# Altium footprint library Motor.PcbLib: 19 footprints (part 1 of 2)
Each footprint in its own frame and in the unit in brackets; x right, y up, seen from the top. Pads: shape width x height; smd on the part's side, far side on the other; paste and mask are expansions set on the pad; w line width, h text height; cw(c..) or ccw(c..) is an arc to the next point about the centre after c.
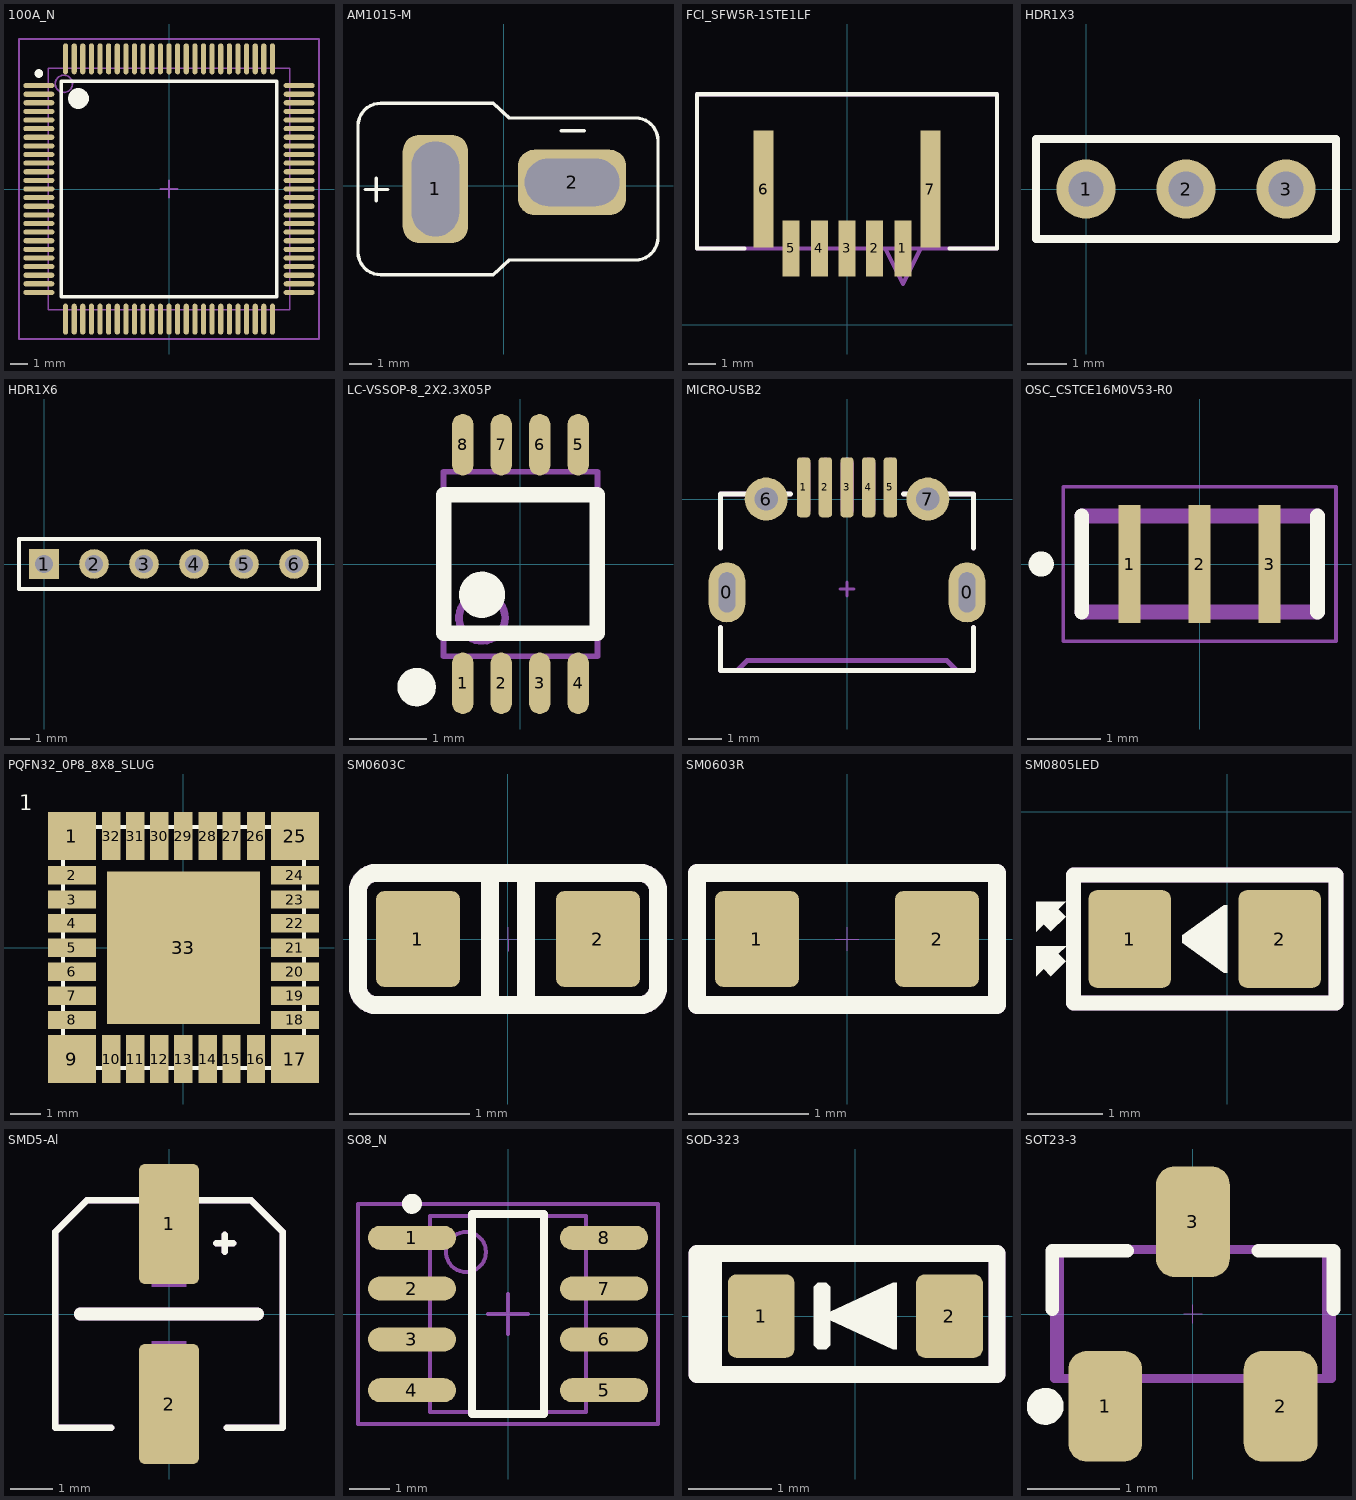
[diagram p0: the footprints below, top view; thin cyan lines are the x and y axes]

## 100A_N [mm] "Thin QFP, 100-Leads, Body 14x14mm, Pitch 0.5mm, IPC Medium Densit"
height 1.2
pads (100):
  oval 1.8x0.3 smd: 1(-7.55,6) 2(-7.55,5.5) 3(-7.55,5) 4(-7.55,4.5) 5(-7.55,4) 6(-7.55,3.5) 7(-7.55,3) 8(-7.55,2.5) 9(-7.55,2) 10(-7.55,1.5) 11(-7.55,1) 12(-7.55,0.5) 13(-7.55,0) 14(-7.55,-0.5) 15(-7.55,-1) 16(-7.55,-1.5) 17(-7.55,-2) 18(-7.55,-2.5) 19(-7.55,-3) 20(-7.55,-3.5) 21(-7.55,-4) 22(-7.55,-4.5) 23(-7.55,-5) 24(-7.55,-5.5) 25(-7.55,-6) 51(7.55,-6) 52(7.55,-5.5) 53(7.55,-5) 54(7.55,-4.5) 55(7.55,-4) 56(7.55,-3.5) 57(7.55,-3) 58(7.55,-2.5) 59(7.55,-2) 60(7.55,-1.5) 61(7.55,-1) 62(7.55,-0.5) 63(7.55,0) 64(7.55,0.5) 65(7.55,1) 66(7.55,1.5) 67(7.55,2) 68(7.55,2.5) 69(7.55,3) 70(7.55,3.5) 71(7.55,4) 72(7.55,4.5) 73(7.55,5) 74(7.55,5.5) 75(7.55,6)
  oval 0.3x1.8 smd: 26(-6,-7.55) 27(-5.5,-7.55) 28(-5,-7.55) 29(-4.5,-7.55) 30(-4,-7.55) 31(-3.5,-7.55) 32(-3,-7.55) 33(-2.5,-7.55) 34(-2,-7.55) 35(-1.5,-7.55) 36(-1,-7.55) 37(-0.5,-7.55) 38(0,-7.55) 39(0.5,-7.55) 40(1,-7.55) 41(1.5,-7.55) 42(2,-7.55) 43(2.5,-7.55) 44(3,-7.55) 45(3.5,-7.55) 46(4,-7.55) 47(4.5,-7.55) 48(5,-7.55) 49(5.5,-7.55) 50(6,-7.55) 76(6,7.55) 77(5.5,7.55) 78(5,7.55) 79(4.5,7.55) 80(4,7.55) 81(3.5,7.55) 82(3,7.55) 83(2.5,7.55) 84(2,7.55) 85(1.5,7.55) 86(1,7.55) 87(0.5,7.55) 88(0,7.55) 89(-0.5,7.55) 90(-1,7.55) 91(-1.5,7.55) 92(-2,7.55) 93(-2.5,7.55) 94(-3,7.55) 95(-3.5,7.55) 96(-4,7.55) 97(-4.5,7.55) 98(-5,7.55) 99(-5.5,7.55) 100(-6,7.55)
Top Overlay:
  circle w0.25: c-7.55,6.7 r0.125
  circle w0.6: c-5.25,5.25 r0.3
  lines w0.2: -6.25,-6.25 -6.25,6.25 6.25,6.25 6.25,-6.25 -6.25,-6.25
Mechanical 6:
  lines w0.1: -0.5,0 0.5,0 ; 0,-0.5 0,0.5 ; -8.7,-8.7 8.7,-8.7 8.7,8.7 -8.7,8.7 -8.7,-8.7 ; -7,-7 7,-7 7,7 -7,7 -7,-7
Mechanical 13:
  circle w0.1: c-6.1,6.1 r0.5
3D body: height 1.2, standoff 0, extent -7,-7 7,7

## AM1015-M [mm]
pads (2):
  rrect50% 2.9x4.8 hole 2.1 slot 4.2 at 90 deg: 1(-3.029,-0.147)
  rrect50% 4.8x2.9 hole 2.1 slot 4.2 at 0 deg: 2(3.029,0.147)
Top Overlay:
  lines w0.15: -6.153,-0.172 -5.137,-0.172 ; -5.645,-0.68 -5.645,0.336 ; 2.551,2.44 3.567,2.44 ; -6.462,-2.949 ccw(c-5.462,-2.949) -5.462,-3.949 -0.462,-3.949 0.238,-3.299 5.838,-3.299 ccw(c5.838,-2.299) 6.838,-2.299 6.838,2.001 ccw(c5.838,2.001) 5.838,3.001 0.238,3.001 -0.462,3.651 -5.462,3.651 ccw(c-5.462,2.651) -6.462,2.651 -6.462,-2.949
Mechanical 4:
  lines w0.013: -2.362,-1.759 -2.161,-1.759 -2.161,1.241 ; -2.362,1.241 -2.062,1.241 ; -2.262,-1.759 -2.262,1.241 ; -2.067,-1.699 -2.067,1.241
Mechanical 6:
  lines w0.013: -3.662,-0.949 -3.962,-0.949 -3.962,0.651 -3.662,0.651 ; 2.238,-0.499 2.238,-0.799 3.838,-0.799 3.838,-0.499 ; -3.662,-1.959 -3.662,1.661 -2.362,1.661 -2.362,-1.959 -3.662,-1.959 ; 1.228,-0.499 4.848,-0.499 4.848,0.801 1.228,0.801 1.228,-0.499
3D body: height 6, standoff 0, extent -6.458,-3.957 6.826,3.663
3D body: height 14.1, standoff -5, extent -3.664,-1.95 -2.364,1.67
3D body: height 14.1, standoff -5, extent 1.225,-0.509 4.845,0.791

## FCI_SFW5R-1STE1LF [mil]
height 57.09
pads (7):
  rect 24x79 smd: 1(79,108) 2(39,108) 3(0,108) 4(-39,108) 5(-79,108)
  rect 28x165 smd: 6(-118,192) 7(118,192)
Top Overlay:
  lines w6: -145,108 -212,108 -212,326 212,326 212,108 145,108
Mechanical 16:
  lines w6: 54,108 79,58 104,108 ; -212,108 212,108 212,326 -212,326 -212,108

## HDR1X3 [mm] "Connector; Header; 3 Position"
height 1.45
pads (3):
  round 1.5 hole 0.9: 1(0,0) 2(2.54,0) 3(5.08,0)
Top Overlay:
  lines w0.2: -1.27,-1.27 6.35,-1.27 6.35,1.27 -1.27,1.27 -1.27,-1.27

## HDR1X6 [mm] "Connector; Header; 5 Position"
pads (6):
  rect 1.5x1.5 hole 0.9: 1(0,0)
  round 1.5 hole 0.9: 2(2.54,0) 3(5.08,0) 4(7.62,0) 5(10.16,0) 6(12.7,0)
Top Overlay:
  lines w0.2: -1.27,-1.27 -1.27,1.27 13.97,1.27 13.97,-1.27 -1.27,-1.27

## LC-VSSOP-8_2X2.3X05P [mm]
pads (8):
  oval 0.28x0.8 smd mask+0.051: 1(-0.75,-1.55) 2(-0.25,-1.55) 3(0.25,-1.55) 4(0.75,-1.55) 5(0.75,1.55) 6(0.25,1.55) 7(-0.25,1.55) 8(-0.75,1.55)
Top Overlay:
  circle w0.25: c-1.35,-1.6 r0.125
  circle w0.35: c-0.5,-0.4 r0.125
  lines w0.2: -1,-0.9 1,-0.9 1,0.9 -1,0.9 -1,-0.9
Mechanical 13:
  circle w0.1: c-0.5,-0.7 r0.3
  lines w0.076: -1,-1.2 1,-1.2 1,1.2 -1,1.2 -1,-1.2
3D body: height 0.91, standoff 0.9, extent -0.85,-0.754 -0.45,-0.354
3D body: height 0.9, standoff 0, extent -1.007,-0.901 0.995,0.889
3D body: height 0.15, standoff 0, extent 0.651,1.254 0.848,1.611
3D body: height 0.6, standoff 0, extent 0.651,1.254 0.848,1.432
3D body: height 0.6, standoff 0.4, extent 0.651,0.9 0.848,1.254
3D body: height 0.15, standoff 0, extent 0.151,1.254 0.348,1.611
3D body: height 0.6, standoff 0, extent 0.151,1.254 0.348,1.432
3D body: height 0.6, standoff 0.4, extent 0.151,0.9 0.348,1.254
3D body: height 0.15, standoff 0, extent -0.349,1.254 -0.152,1.611
3D body: height 0.6, standoff 0, extent -0.349,1.254 -0.152,1.432
3D body: height 0.6, standoff 0.4, extent -0.349,0.9 -0.152,1.254
3D body: height 0.15, standoff 0, extent -0.849,1.254 -0.652,1.611
3D body: height 0.6, standoff 0, extent -0.849,1.254 -0.652,1.432
3D body: height 0.6, standoff 0.4, extent -0.849,0.9 -0.652,1.254
3D body: height 0.15, standoff 0, extent 0.652,-1.611 0.849,-1.254
3D body: height 0.6, standoff 0, extent 0.652,-1.432 0.849,-1.254
3D body: height 0.6, standoff 0.4, extent 0.652,-1.254 0.849,-0.9
3D body: height 0.15, standoff 0, extent 0.152,-1.611 0.349,-1.254
3D body: height 0.6, standoff 0, extent 0.152,-1.432 0.349,-1.254
3D body: height 0.6, standoff 0.4, extent 0.152,-1.254 0.349,-0.9
3D body: height 0.15, standoff 0, extent -0.348,-1.611 -0.151,-1.254
3D body: height 0.6, standoff 0, extent -0.348,-1.432 -0.151,-1.254
3D body: height 0.6, standoff 0.4, extent -0.348,-1.254 -0.151,-0.9
3D body: height 0.6, standoff 0.4, extent -0.848,-1.254 -0.651,-0.9
3D body: height 0.6, standoff 0, extent -0.848,-1.432 -0.651,-1.254
3D body: height 0.15, standoff 0, extent -0.848,-1.611 -0.651,-1.254

## MICRO-USB2 [mm]
height 2.45
pads (9):
  oval 1.1x1.8 hole 0.5 slot 1.2 at 90 deg mask+0.05: 0(-3.6,-2.8) 0(3.6,-2.8)
  rrect50% 0.4x1.8 smd mask+0.05: 1(-1.3,0.352) 2(-0.65,0.352) 3(0,0.352) 4(0.65,0.352) 5(1.3,0.352)
  round 1.29 hole 0.7 unplated mask+0.05: 6(-2.425,0) 7(2.425,0)
Top Overlay:
  lines w0.15: -3.8,-3.85 -3.8,-5.15 3.8,-5.15 3.8,-3.85 ; -3.8,-1.475 -3.8,0.15 -1.7,0.15 ; 1.7,0.15 3.8,0.15 3.8,-1.475
Mechanical 7:
  lines w0.1: -0.2,-2.7 0.2,-2.7 ; 0,-2.9 0,-2.5
  lines w0.15: -3.8,-3.85 -3.8,-5.15 -3.3,-5.15 ; -3.8,-1.475 -3.8,0.15 -1.7,0.15 ; -3.475,-5.15 -3.3,-5.15 ; 1.7,0.15 3.8,0.15 3.8,-1.475 ; 3.475,-5.15 3.3,-5.15 ; 3.8,-3.85 3.8,-5.15 3.3,-5.15 ; -3.3,-5.15 -3,-4.85 3,-4.85 3.3,-5.15
  lines w0.4: -1.295,-0.33 -1.295,0.341 -1.295,1.041 ; -0.645,-0.33 -0.645,0.341 -0.645,1.041 ; 0.005,-0.33 0.005,0.341 0.005,1.041 ; 0.655,-0.33 0.655,0.341 0.655,1.041 ; 1.305,-0.33 1.305,0.341 1.305,1.041
  text ".Comment" at -3.275,-4.575 h1
  text ".Designator" at -3.625,-1.575 h2
3D body: height 2.69, standoff -0.25, extent -3.99,-5.23 3.99,0.2

## OSC_CSTCE16M0V53-R0 [mm]
height 1.45
pads (3):
  rect 0.3x1.6 smd paste-25.4 mask-25.4: 1(-0.95,0) 2(0,0) 3(0.95,0)
Top Overlay:
  circle w0.2: c-2.15,0 r0.071
  lines w0.2: -1.6,-0.65 -1.6,0.65 ; 1.6,-0.65 1.6,0.65
Top Paste:
  region: 0.8,-0.8 1.1,-0.8 1.1,0.8 0.8,0.8
  region: -0.15,-0.8 0.15,-0.8 0.15,0.8 -0.15,0.8
  region: -1.1,-0.8 -0.8,-0.8 -0.8,0.8 -1.1,0.8
Top Solder:
  region: 0.7,-0.9 1.2,-0.9 1.2,0.9 0.7,0.9
  region: -0.25,-0.9 0.25,-0.9 0.25,0.9 -0.25,0.9
  region: -1.2,-0.9 -0.7,-0.9 -0.7,0.9 -1.2,0.9
Mechanical 6:
  lines w0.05: -1.85,-1.05 1.85,-1.05 1.85,1.05 -1.85,1.05 -1.85,-1.05
  lines w0.2: -1.6,-0.65 1.6,-0.65 ; -1.6,0.65 1.6,0.65

## PQFN32_0P8_8X8_SLUG [mil]
height 57.09
pads (33):
  rect 63x63 smd: 1(-145.67,146) 9(-145.67,-145.67) 17(146,-145.67) 25(146,146)
  rect 63x24 smd: 2(-145.67,95) 3(-145.67,63) 4(-145.67,32) 5(-145.67,0) 6(-145.67,-31.5) 7(-145.67,-62.99) 8(-145.67,-94.49) 18(146,-94.49) 19(146,-62.99) 20(146,-31.5) 21(146,0) 22(146,32) 23(146,63) 24(146,95)
  rect 24x63 smd: 10(-94.49,-145.67) 11(-62.99,-145.67) 12(-31.5,-145.67) 13(0,-145.67) 14(32,-145.67) 15(63,-145.67) 16(95,-145.67) 26(95,146) 27(63,146) 28(32,146) 29(0,146) 30(-31.5,146) 31(-62.99,146) 32(-94.49,146)
  rect 200x200 smd: 33(0,0)
Top Overlay:
  lines w5: -157.48,-157.48 158,-157.48 158,158 -157.48,158 -157.48,-157.48
  text "1" at -215,180 h20
3D body: height 43.31, standoff 1.97, extent -157.6,-157.48 157.99,157.95
3D body: height 43.7, standoff 43.31, extent -141.78,103.87 -102.43,143.23
3D body: height 7.87, standoff 0, extent -157.91,84.55 -142.16,105.22
3D body: height 7.87, standoff 0, extent -157.91,116.55 -142.16,137.22
3D body: height 7.87, standoff 0, extent -157.91,52.55 -142.16,73.22
3D body: height 7.87, standoff 0, extent -157.91,52.55 -142.16,73.22
3D body: height 7.87, standoff 0, extent -157.91,21.55 -142.16,42.22
3D body: height 7.87, standoff 0, extent -157.91,-10.45 -142.16,10.22
3D body: height 7.87, standoff 0, extent -157.91,-41.95 -142.16,-21.28
3D body: height 7.87, standoff 0, extent -157.91,-73.44 -142.16,-52.77
3D body: height 7.87, standoff 0, extent -157.91,-104.94 -142.16,-84.27
3D body: height 7.87, standoff 0, extent -157.91,-136.71 -142.16,-116.04
3D body: height 7.87, standoff 0, extent 116.55,-157.91 137.22,-142.16
3D body: height 7.87, standoff 0, extent 84.78,-157.91 105.45,-142.16
3D body: height 7.87, standoff 0, extent 53.28,-157.91 73.95,-142.16
3D body: height 7.87, standoff 0, extent 21.79,-157.91 42.46,-142.16
3D body: height 7.87, standoff 0, extent -9.71,-157.91 10.96,-142.16
3D body: height 7.87, standoff 0, extent -41.71,-157.91 -21.04,-142.16
3D body: height 7.87, standoff 0, extent -72.71,-157.91 -52.04,-142.16
3D body: height 7.87, standoff 0, extent -72.71,-157.91 -52.04,-142.16
3D body: height 7.87, standoff 0, extent -136.71,-157.91 -116.04,-142.16
3D body: height 7.87, standoff 0, extent -104.71,-157.91 -84.04,-142.16
3D body: height 7.87, standoff 0, extent 142.49,116.55 158.24,137.22
3D body: height 7.87, standoff 0, extent 142.49,84.78 158.24,105.45
3D body: height 7.87, standoff 0, extent 142.49,53.28 158.24,73.95
3D body: height 7.87, standoff 0, extent 142.49,21.79 158.24,42.46
3D body: height 7.87, standoff 0, extent 142.49,-9.71 158.24,10.96
3D body: height 7.87, standoff 0, extent 142.49,-41.71 158.24,-21.04
3D body: height 7.87, standoff 0, extent 142.49,-72.71 158.24,-52.04
3D body: height 7.87, standoff 0, extent 142.49,-72.71 158.24,-52.04
3D body: height 7.87, standoff 0, extent 142.49,-136.71 158.24,-116.04
3D body: height 7.87, standoff 0, extent 142.49,-104.71 158.24,-84.04
3D body: height 7.87, standoff 0, extent -136.71,142.49 -116.04,158.24
3D body: height 7.87, standoff 0, extent -104.94,142.49 -84.27,158.24
3D body: height 7.87, standoff 0, extent -73.44,142.49 -52.77,158.24
3D body: height 7.87, standoff 0, extent -41.95,142.49 -21.28,158.24
3D body: height 7.87, standoff 0, extent -10.45,142.49 10.22,158.24
3D body: height 7.87, standoff 0, extent 21.55,142.49 42.22,158.24
3D body: height 7.87, standoff 0, extent 52.55,142.49 73.22,158.24
3D body: height 7.87, standoff 0, extent 52.55,142.49 73.22,158.24
3D body: height 7.87, standoff 0, extent 116.55,142.49 137.22,158.24
3D body: height 7.87, standoff 0, extent 84.55,142.49 105.22,158.24

## SM0603C [mm]
height 0.3
pads (2):
  rrect20% 0.7x0.8 smd: 1(-0.75,0) 2(0.75,0)
Top Overlay:
  lines w0.15: -0.15,-0.55 -0.15,0.55 ; 0.15,-0.55 0.15,0.55 ; -1.25,-0.4 ccw(c-1.1,-0.4) -1.1,-0.55 1.1,-0.55 ccw(c1.1,-0.4) 1.25,-0.4 1.25,0.4 ccw(c1.1,0.4) 1.1,0.55 -1.1,0.55 ccw(c-1.1,0.4) -1.25,0.4 -1.25,-0.4
Mechanical 7:
  lines w0.01: -0.1,0 0.1,0 ; 0,-0.1 0,0.1
  lines w0.15: -1.25,-0.4 ccw(c-1.1,-0.4) -1.1,-0.55 1.1,-0.55 ccw(c1.1,-0.4) 1.25,-0.4 1.25,0.4 ccw(c1.1,0.4) 1.1,0.55 -1.1,0.55 ccw(c-1.1,0.4) -1.25,0.4 -1.25,-0.4
  text ".Designator" at -1.1,-0.2 h0.95
  text ".Comment" at -1,-0.45 h0.2
3D body: height 0.81, standoff 0, extent -0.457,-0.381 0.457,0.381
3D body: height 0.81, standoff 0, extent 0.457,-0.381 0.762,0.381
3D body: height 0.81, standoff 0, extent -0.762,-0.381 -0.457,0.381

## SM0603R [mm]
pads (2):
  rrect20% 0.7x0.8 smd: 1(-0.75,0) 2(0.75,0)
Top Overlay:
  lines w0.152: -1.25,-0.55 -1.25,0.55 1.25,0.55 1.25,-0.55 -1.25,-0.55
Mechanical 7:
  lines w0.01: -0.1,0 0.1,0 ; 0,-0.1 0,0.1
  lines w0.15: -1.25,-0.55 -1.25,0.55 1.25,0.55 1.25,-0.55 -1.25,-0.55
  text ".Designator" at -1.1,-0.2 h0.95
  text ".Comment" at -1,-0.45 h0.2
3D body: height 0.81, standoff 0, extent -0.457,-0.381 0.457,0.381
3D body: height 0.81, standoff 0, extent -0.762,-0.381 -0.457,0.381
3D body: height 0.81, standoff 0, extent 0.457,-0.381 0.762,0.381

## SM0805LED [mm]
pads (2):
  rrect20% 1.1x1.3 smd: 1(-1.3,-1.7) 2(0.7,-1.7)
Top Overlay:
  region: -2.15,-2 -2.25,-1.9 -2.15,-1.8 -2.55,-1.8 -2.55,-2.2 -2.45,-2.1 -2.35,-2.2
  region: -2.15,-1.4 -2.25,-1.3 -2.15,-1.2 -2.55,-1.2 -2.55,-1.6 -2.45,-1.5 -2.35,-1.6
  region: -0.6,-1.65 -0.05,-1.25 0,-1.25 0,-2.15 -0.05,-2.15 -0.6,-1.75
  lines w0.2: -2.05,-2.55 -2.05,-2.3 -2.05,-1.1 -2.05,-0.85 -1.8,-0.85 1.197,-0.85 1.45,-0.85 1.45,-1.1 1.45,-2.3 1.45,-2.55 1.2,-2.55 -1.8,-2.55 -2.05,-2.55
Mechanical 7:
  lines w0.02: -0.4,-1.7 -0.2,-1.7 ; -0.3,-1.8 -0.3,-1.6
  lines w0.2: -2.05,-2.55 -1.8,-2.55 1.2,-2.55 1.45,-2.55 1.45,-2.3 1.45,-1.1 1.45,-0.85 1.197,-0.85 -1.8,-0.85 -2.05,-0.85 -2.05,-1.1 -2.05,-2.3 -2.05,-2.55
  text ".Designator" at -1.85,-1.62 h1
  text ".Comment" at -1.85,-2.3 h0.4
3D body: height 0.14, standoff 0.1, extent -0.376,-1.776 -0.224,-1.624
3D body: height 0.1, standoff 0.03, extent -1.037,-2.081 0.437,-1.319
3D body: height 0.1, standoff 0.03, extent -1.037,-2.081 0.437,-1.319
3D body: height 0.4, standoff 0.13, extent -0.757,-2.081 0.157,-1.319
3D body: height 0.13, standoff 0, extent -1.4,-2.068 -1.375,-1.306
3D body: height 0.13, standoff 0.1, extent -1.4,-2.068 -0.744,-1.306
3D body: height 0.03, standoff 0, extent -1.4,-2.068 -0.744,-1.306
3D body: height 0.03, standoff 0, extent 0.145,-2.068 0.8,-1.306
3D body: height 0.13, standoff 0.1, extent 0.145,-2.068 0.8,-1.306
3D body: height 0.13, standoff 0, extent 0.775,-2.068 0.8,-1.306
3D body: height 0.14, standoff 0.13, extent -0.313,-1.89 0.005,-1.662
3D body: height 0.13, standoff 0.1, extent -0.059,-1.941 0.145,-1.814
3D body: height 0.13, standoff 0.1, extent -0.745,-1.789 0.068,-1.56

## SMD5-Al [mm]
height 5.4
pads (2):
  rrect20% 1.4x2.8 smd: 1(0,2.1) 2(0,-2.1)
Top Overlay:
  lines w0.15: -1.35,-2.65 -2.65,-2.65 -2.65,1.922 -1.922,2.65 1.922,2.65 2.65,1.922 2.65,-2.65 1.35,-2.65 ; 1.1,1.65 1.5,1.65 ; 1.3,1.45 1.3,1.85
  lines w0.3: -2.07,0 2.065,0
Mechanical 7:
  region: -0.4,0.635 0.4,0.635 0.4,2.921 -0.4,2.921
  region: 0.4,-0.635 -0.4,-0.635 -0.4,-2.921 0.4,-2.921
  lines w0.01: -0.1,0 0.1,0 ; 0,-0.1 0,0.1
  lines w0.15: -1.35,-2.65 -2.65,-2.65 -2.65,1.922 -1.922,2.65 1.922,2.65 2.65,1.922 2.65,-2.65 1.35,-2.65 ; 1.1,1.65 1.5,1.65 ; 1.3,1.45 1.3,1.85
  lines w0.3: -2.07,0 2.065,0
  text ".Comment" at 1.65,-1.85 h0.3
  text ".Designator" at -1.1,-1.95 h0.95
3D body: height 0.8, standoff 0.3, extent -2.667,-2.65 2.65,2.65
3D body: height 5.41, standoff 5.38, extent -1.52,-1.995 1.52,-1.295
3D body: height 5.4, standoff 0.8, extent -2.508,-2.498 2.489,2.5
3D body: height 0.3, standoff 0.05, extent -2.65,-2.65 2.65,2.65
3D body: height 0.28, standoff 0, extent -0.4,0.703 0.4,2.853
3D body: height 0.28, standoff 0, extent -0.4,-2.853 0.4,-0.703

## SO8_N [mm] "SOIC, 8-Leads, Body 4.9x3.9mm, Pitch 1.27mm, IPC Medium Density"
height 1.76
pads (8):
  oval 2.2x0.6 smd: 1(-2.4,1.905) 2(-2.4,0.635) 3(-2.4,-0.635) 4(-2.4,-1.905) 5(2.4,-1.905) 6(2.4,-0.635) 7(2.4,0.635) 8(2.4,1.905)
Top Overlay:
  circle w0.25: c-2.4,2.755 r0.125
  lines w0.2: -0.9,-2.5 -0.9,2.5 0.9,2.5 0.9,-2.5 -0.9,-2.5
Mechanical 6:
  lines w0.1: -0.5,0 0.5,0 ; 0,-0.5 0,0.5 ; -3.75,-2.75 3.75,-2.75 3.75,2.75 -3.75,2.75 -3.75,-2.75 ; -1.95,-2.45 1.95,-2.45 1.95,2.45 -1.95,2.45 -1.95,-2.45
Mechanical 13:
  circle w0.1: c-1.05,1.55 r0.5
3D body: height 1.76, standoff 0, extent -1.95,-2.45 1.95,2.45

## SOD-323 [mm] "Reflow soldering footprint,2.5x1.3mm"
height 1
pads (2):
  rrect25% 0.8x1 smd: 1(-1.13,0) 2(1.13,0)
Top Overlay:
  region: -0.5,0.35 -0.45,0.4 -0.35,0.4 -0.3,0.35 -0.3,0.05 0.45,0.4 0.5,0.4 0.5,-0.4 0.45,-0.4 -0.3,-0.05 -0.3,-0.35 -0.35,-0.4 -0.45,-0.4 -0.5,-0.35
  lines w0.2: -1.7,-0.7 -1.7,0.75 ; -1.9,-0.7 1.7,-0.7 1.7,0.75 -1.9,0.75 -1.9,-0.7
Mechanical 7:
  lines w0.001: -0.1,0 0.1,0 ; 0,-0.1 0,0.1
  lines w0.2: -1.7,-0.7 -1.7,0.75 ; -1.9,-0.7 -1.9,0.75 1.7,0.75 1.7,-0.7 -1.9,-0.7
  text ".Designator" at -1.55,-0.05 h1
  text ".Comment" at -1.55,-0.5 h0.3
3D body: height 1, standoff 0.1, extent -0.85,-0.65 0.85,0.65
3D body: height 1.01, standoff 1, extent -0.65,-0.65 -0.25,0.65
3D body: height 0.25, standoff 0, extent 0.8,-0.2 1.25,0.2
3D body: height 0.25, standoff 0, extent -1.25,-0.2 -0.8,0.2

## SOT23-3 [mm] "SOT23, 3-Leads, Body 2.9x1.3mm, Pitch 0.95mm, Lead Span 2.5mm, IPC High Density"
height 1.1
pads (3):
  rrect50% 0.8x1.2 smd mask+0.08: 1(-0.95,-1) 2(0.95,-1) 3(0,1)
Top Overlay:
  circle w0.2: c-1.6,-1 r0.1
  lines w0.15: -1.524,0.051 -1.524,0.686 -0.711,0.686 ; 0.711,0.686 1.524,0.686 1.524,0.051
Mechanical 7:
  lines w0.001: -0.1,0 0.1,0 ; 0,-0.1 0,0.1
  lines w0.1: -1.25,-0.7 -1.25,-1.5 -0.65,-1.5 -0.65,-0.7 ; -0.3,0.7 -0.3,1.5 0.3,1.5 0.3,0.7 ; 0.65,-0.7 0.65,-1.5 1.25,-1.5 1.25,-0.7 ; -1.448,-0.7 1.448,-0.7 1.448,0.7 -1.448,0.7 -1.448,-0.7
  text ".Comment" at -1.3,-0.6 h0.3
  text ".Designator" at -1.3,-0.1 h1
Mechanical 13:
  lines w0.1: -1.5,-0.7 1.5,-0.7 1.5,0.7 -1.5,0.7 -1.5,-0.7
3D body: height 1.02, standoff 0.1, extent -1.473,-0.66 1.473,0.66
3D body: height 0.51, standoff 0, extent -1.168,-0.94 -0.711,-0.787
3D body: height 0.13, standoff 0, extent -1.168,-1.143 -0.711,-0.864
3D body: height 0.51, standoff 0.38, extent -1.168,-0.864 -0.711,-0.61
3D body: height 0.51, standoff 0, extent 0.721,-0.94 1.179,-0.787
3D body: height 0.13, standoff 0, extent 0.721,-1.143 1.179,-0.864
3D body: height 0.51, standoff 0.38, extent 0.721,-0.864 1.179,-0.61
3D body: height 0.51, standoff 0, extent -0.229,0.787 0.229,0.94
3D body: height 0.13, standoff 0, extent -0.229,0.864 0.229,1.143
3D body: height 0.51, standoff 0.38, extent -0.229,0.61 0.229,0.864